# Altium footprint library NANO_STM32F103.PcbLib: 35 footprints (part 2 of 3)
Each footprint in its own frame and in the unit in brackets; x right, y up, seen from the top. Pads: shape width x height; smd on the part's side, far side on the other; paste and mask are expansions set on the pad; w line width, h text height; cw(c..) or ccw(c..) is an arc to the next point about the centre after c.
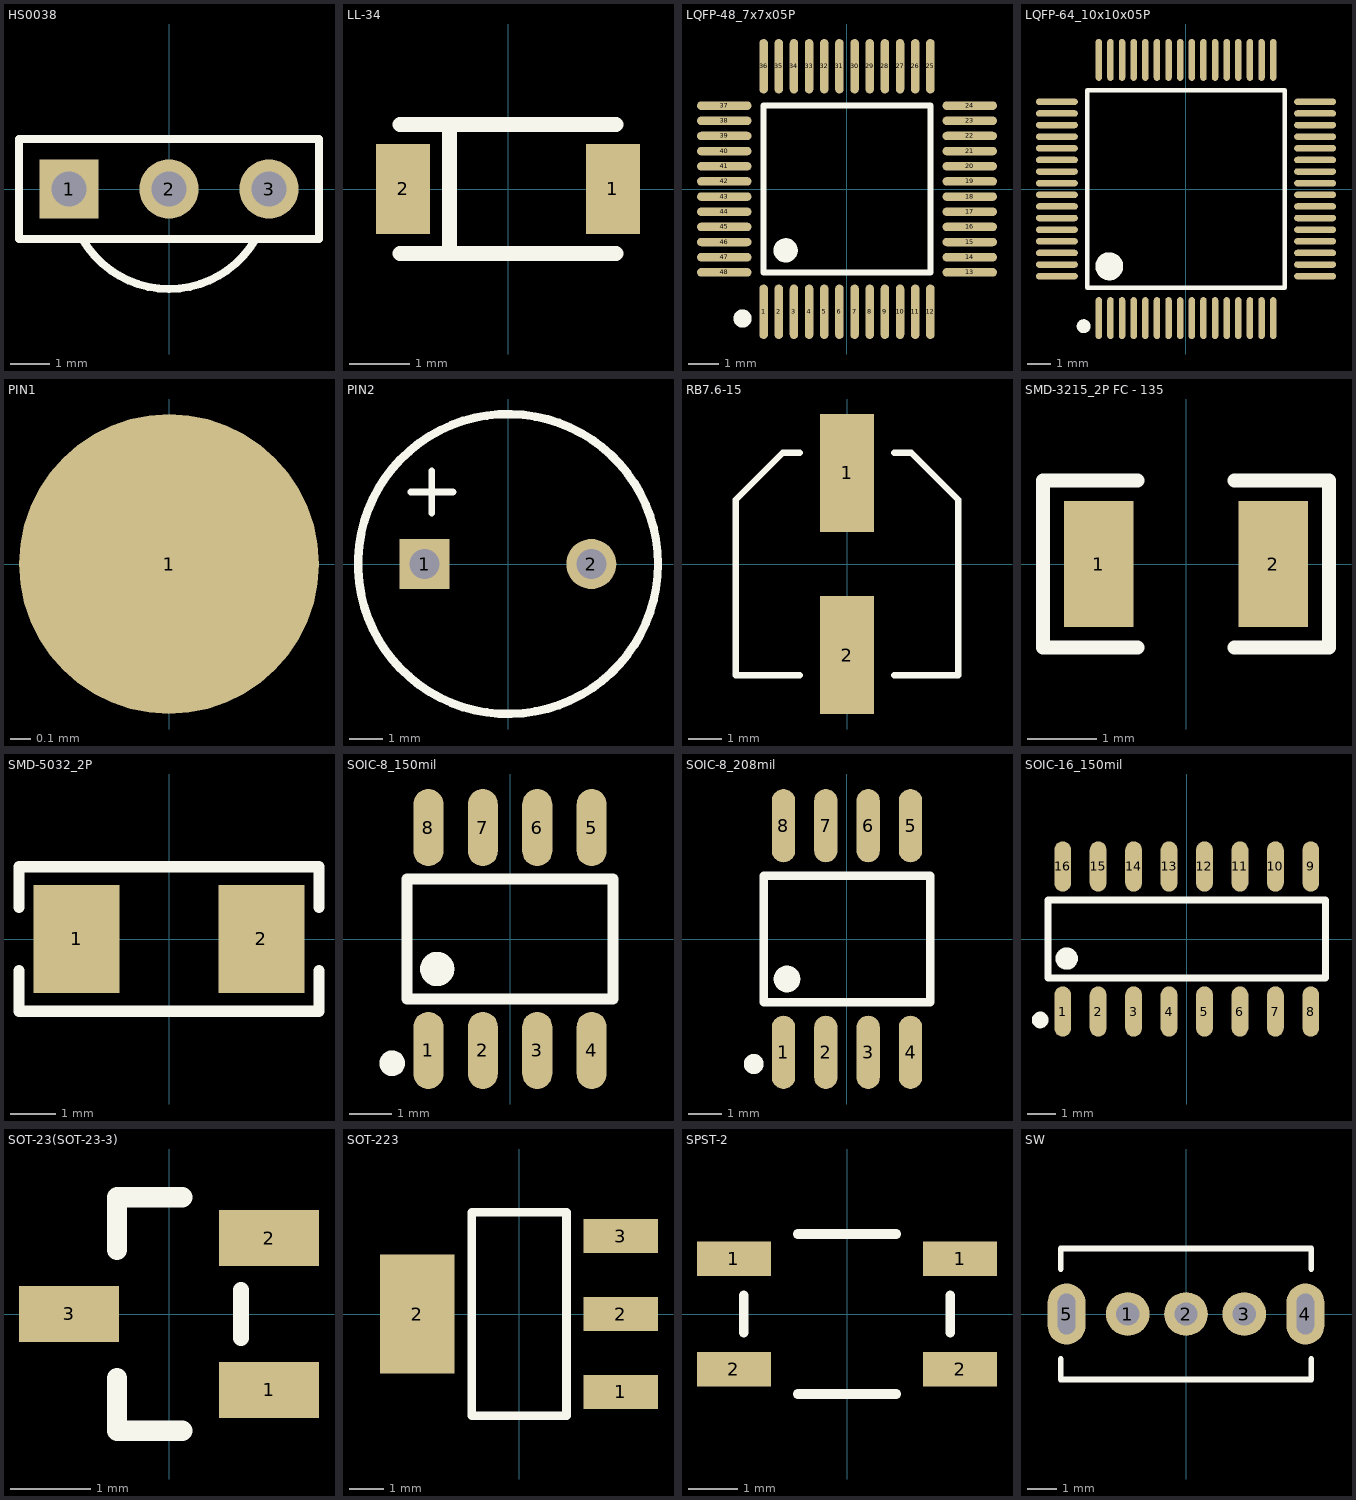
[diagram p1: the footprints below, top view; thin cyan lines are the x and y axes]

## HS0038 [mm] "2.54mm"
pads (3):
  rect 1.5x1.5 hole 0.9: 1(-2.54,0)
  round 1.5 hole 0.9: 2(0,0) 3(2.54,0)
Top Overlay:
  lines w0.2: -2.196,-1.277 ccw(c0,0) 2.196,-1.277 ; -3.81,-1.27 3.81,-1.27 3.81,1.27 -3.81,1.27 -3.81,-1.27
3D body "User Library-IR reciver.step": height 8.97, standoff -4.13, extent -3.003,-3.969 2.997,3.817

## LL-34 [mm]
pads (2):
  rect 0.9x1.5 smd: 1(1.75,0) 2(-1.75,0)
Top Overlay:
  lines w0.254: -1.8,-1.075 1.8,-1.075 ; -1.8,1.075 1.8,1.075 ; -0.975,-1.075 -0.975,1.075
3D body "DIOMELF3515N.STEP": height 1.5, standoff 0, extent -1.75,-0.75 1.75,0.75

## LQFP-48_7x7x05P [mm]
pads (48):
  oval 0.28x1.8 smd mask+0.051: 1(-2.75,-4.05) 2(-2.25,-4.05) 3(-1.75,-4.05) 4(-1.25,-4.05) 5(-0.75,-4.05) 6(-0.25,-4.05) 7(0.25,-4.05) 8(0.75,-4.05) 9(1.25,-4.05) 10(1.75,-4.05) 11(2.25,-4.05) 12(2.75,-4.05) 25(2.75,4.05) 26(2.25,4.05) 27(1.75,4.05) 28(1.25,4.05) 29(0.75,4.05) 30(0.25,4.05) 31(-0.25,4.05) 32(-0.75,4.05) 33(-1.25,4.05) 34(-1.75,4.05) 35(-2.25,4.05) 36(-2.75,4.05)
  oval 1.8x0.28 smd mask+0.051: 13(4.05,-2.75) 14(4.05,-2.25) 15(4.05,-1.75) 16(4.05,-1.25) 17(4.05,-0.75) 18(4.05,-0.25) 19(4.05,0.25) 20(4.05,0.75) 21(4.05,1.25) 22(4.05,1.75) 23(4.05,2.25) 24(4.05,2.75) 37(-4.05,2.75) 38(-4.05,2.25) 39(-4.05,1.75) 40(-4.05,1.25) 41(-4.05,0.75) 42(-4.05,0.25) 43(-4.05,-0.25) 44(-4.05,-0.75) 45(-4.05,-1.25) 46(-4.05,-1.75) 47(-4.05,-2.25) 48(-4.05,-2.75)
Top Overlay:
  circle w0.4: c-2.025,-2.025 r0.2
  circle w0.3: c-3.45,-4.275 r0.15
  lines w0.2: -2.75,-2.75 -2.75,2.75 2.75,2.75 2.75,-2.75 -2.75,-2.75
3D body "LQFP7X7-48.STEP": height 1.56, standoff 0, extent -4.496,-4.496 4.504,4.504

## LQFP-64_10x10x05P [mm]
pads (64):
  oval 0.28x1.8 smd mask+0.051: 1(-3.75,-5.55) 2(-3.25,-5.55) 3(-2.75,-5.55) 4(-2.25,-5.55) 5(-1.75,-5.55) 6(-1.25,-5.55) 7(-0.75,-5.55) 8(-0.25,-5.55) 9(0.25,-5.55) 10(0.75,-5.55) 11(1.25,-5.55) 12(1.75,-5.55) 13(2.25,-5.55) 14(2.75,-5.55) 15(3.25,-5.55) 16(3.75,-5.55) 33(3.75,5.55) 34(3.25,5.55) 35(2.75,5.55) 36(2.25,5.55) 37(1.75,5.55) 38(1.25,5.55) 39(0.75,5.55) 40(0.25,5.55) 41(-0.25,5.55) 42(-0.75,5.55) 43(-1.25,5.55) 44(-1.75,5.55) 45(-2.25,5.55) 46(-2.75,5.55) 47(-3.25,5.55) 48(-3.75,5.55)
  oval 1.8x0.28 smd mask+0.051: 17(5.55,-3.75) 18(5.55,-3.25) 19(5.55,-2.75) 20(5.55,-2.25) 21(5.55,-1.75) 22(5.55,-1.25) 23(5.55,-0.75) 24(5.55,-0.25) 25(5.55,0.25) 26(5.55,0.75) 27(5.55,1.25) 28(5.55,1.75) 29(5.55,2.25) 30(5.55,2.75) 31(5.55,3.25) 32(5.55,3.75) 49(-5.55,3.75) 50(-5.55,3.25) 51(-5.55,2.75) 52(-5.55,2.25) 53(-5.55,1.75) 54(-5.55,1.25) 55(-5.55,0.75) 56(-5.55,0.25) 57(-5.55,-0.25) 58(-5.55,-0.75) 59(-5.55,-1.25) 60(-5.55,-1.75) 61(-5.55,-2.25) 62(-5.55,-2.75) 63(-5.55,-3.25) 64(-5.55,-3.75)
Top Overlay:
  circle w0.3: c-4.4,-5.9 r0.15
  circle w0.6: c-3.3,-3.325 r0.3
  lines w0.2: -4.25,-4.25 4.25,-4.25 4.25,4.25 -4.25,4.25 -4.25,-4.25
3D body "LQFP-64.STEP": height 1.6, standoff 0, extent -6,-6.001 6,5.999

## PIN1 [mm] "测试焊盘"
pads (1):
  round 1.5 smd: 1(0,0)

## PIN2 [mm] "Photosensitive Diode; 2 Leads"
pads (2):
  rect 1.5x1.5 hole 0.9: 1(-2.5,0)
  round 1.5 hole 0.9: 2(2.5,0)
Top Overlay:
  circle w0.254: c0,0 r4.5
  lines w0.2: -2.921,2.159 -1.651,2.159 ; -2.286,1.524 -2.286,2.794
3D body "Buzzer_9mm_2.STEP": height 5.63, standoff -5.37, extent -4.55,-4.55 4.55,4.55

## RB7.6-15 [mm] "6.5mm*5.4mm贴片电解电容"
pads (2):
  rect 1.6x3.5 smd: 1(0,2.7) 2(0,-2.7)
Top Overlay:
  lines w0.2: -1.399,-3.3 -3.3,-3.3 -3.3,1.907 -1.907,3.3 -1.399,3.3 ; 1.399,-3.3 3.3,-3.3 3.3,1.907 1.907,3.3 1.399,3.3
3D body "CAPE-D.STEP": height 5.41, standoff -0.01, extent -3.3,-3.5 3.3,3.5

## SMD-3215_2P FC - 135 [mm]
pads (2):
  rect 1x1.8 smd: 1(-1.25,0) 2(1.25,0)
Top Overlay:
  lines w0.2: -0.695,-1.2 -2.05,-1.2 -2.05,1.2 -0.695,1.2 ; 0.695,-1.2 2.05,-1.2 2.05,1.2 0.695,1.2
3D body "XTAL ABS07.STEP": height 0.91, standoff 0, extent -1.61,-0.76 1.61,0.76

## SMD-5032_2P [mm]
pads (2):
  rect 1.9x2.4 smd: 1(-2.05,0) 2(2.05,0)
Top Overlay:
  lines w0.254: -3.325,-0.7 -3.325,-1.6 3.325,-1.6 3.325,-0.7 ; -3.325,0.7 -3.325,1.6 3.325,1.6 3.325,0.7
3D body "Xtal-ABM7.STEP": height -0.49, standoff -1.89, extent -3.1,-1.846 3.1,1.854

## SOIC-8_150mil [mm]
pads (8):
  oval 0.7x1.8 smd: 1(-1.905,-2.6) 2(-0.635,-2.6) 3(0.635,-2.6) 4(1.905,-2.6) 5(1.905,2.6) 6(0.635,2.6) 7(-0.635,2.6) 8(-1.905,2.6)
Top Overlay:
  circle w0.3: c-2.75,-2.9 r0.15
  circle w0.4: c-1.7,-0.7 r0.2
  lines w0.254: -2.4,-1.4 2.4,-1.4 2.4,1.4 -2.4,1.4 -2.4,-1.4
3D body "SOIC-8-150.STEP": height 1.72, standoff -0.03, extent -2.5,-3.1 2.5,3.1

## SOIC-8_208mil [mm]
pads (8):
  oval 0.7x2.2 smd: 1(-1.905,-3.4) 2(-0.635,-3.4) 3(0.635,-3.4) 4(1.905,-3.4) 5(1.905,3.4) 6(0.635,3.4) 7(-0.635,3.4) 8(-1.905,3.4)
Top Overlay:
  circle w0.4: c-1.8,-1.2 r0.2
  circle w0.3: c-2.797,-3.75 r0.15
  lines w0.254: -2.5,-1.9 2.5,-1.9 2.5,1.9 -2.5,1.9 -2.5,-1.9
3D body "SOIC-8-208.STEP": height 2.14, standoff -0.01, extent -2.7,-4.1 2.7,4.1

## SOIC-16_150mil [mm]
pads (16):
  oval 0.6x1.8 smd: 1(-4.445,-2.6) 2(-3.175,-2.6) 3(-1.905,-2.6) 4(-0.635,-2.6) 5(0.635,-2.6) 6(1.905,-2.6) 7(3.175,-2.6) 8(4.445,-2.6) 9(4.445,2.6) 10(3.175,2.6) 11(1.905,2.6) 12(0.635,2.6) 13(-0.635,2.6) 14(-1.905,2.6) 15(-3.175,2.6) 16(-4.445,2.6)
Top Overlay:
  circle w0.3: c-5.25,-2.9 r0.15
  circle w0.4: c-4.3,-0.7 r0.2
  lines w0.254: -4.975,-1.4 4.975,-1.4 4.975,1.4 -4.975,1.4 -4.975,-1.4
3D body "SOIC16-150.step": height 1.75, standoff 0, extent -4.9,-2.9 4.9,2.9

## SOT-23(SOT-23-3) [mm]
pads (3):
  rect 1.25x0.7 smd: 1(1.25,-0.95) 2(1.25,0.95) 3(-1.25,0)
Top Overlay:
  lines w0.2: 0.9,-0.3 0.9,0.3
  lines w0.254: -0.65,-0.8 -0.65,-1.46 0.165,-1.46 ; 0.165,1.46 -0.65,1.46 ; -0.65,0.8 -0.65,1.46 ; -0.65,0.8 -0.65,1.46 ; -0.65,0.8 -0.65,1.46
3D body "SOT-23.step": height 1.3, standoff 0, extent -1.5,-1.5 1.5,1.5

## SOT-223 [mm]
pads (4):
  rect 2.2x1 smd: 1(3,-2.3) 2(3,0) 3(3,2.3)
  rect 2.2x3.5 smd: 2(-3,0)
Top Overlay:
  lines w0.254: -1.4,-3 1.4,-3 1.4,3 -1.4,3 -1.4,-3
3D body "TO-223.STEP": height 1.64, standoff -0.04, extent -3.49,-3.242 3.49,3.243

## SPST-2 [mm] "Switch; 2 Leads"
pads (4):
  rect 1.5x0.7 smd: 1(-2.3,1.125) 1(2.3,1.125) 2(-2.3,-1.125) 2(2.3,-1.125)
Top Overlay:
  lines w0.2: -2.1,-0.381 -2.1,0.381 ; -1,-1.625 1,-1.625 ; -1,1.625 1,1.625 ; 2.1,-0.381 2.1,0.381
3D body "43471.stp": height 2.52, standoff 0.02, extent -2.3,-1.6 2.3,1.6

## SW [mm] "拨动开关"
pads (5):
  round 1.5 hole 0.8: 1(-2,0) 2(0,0) 3(2,0)
  oval 1.3x2.1 hole 1.4 slot 0.6 at 0 deg: 4(4.1,0) 5(-4.1,0)
Top Overlay:
  lines w0.2: -4.3,-1.542 -4.3,-2.25 4.3,-2.25 4.3,-1.542 ; -4.3,1.542 -4.3,2.25 4.3,2.25 4.3,1.542
3D body "User Library-OS102011MS2QN1.step": height 8.08, standoff -3.33, extent -4.274,-2.15 4.326,2.15